# Altium integrated library FMCOMMS3_compatible_board.IntLib: 40 symbols
Pins are listed as number, name and electrical type; pins without a type are passive.

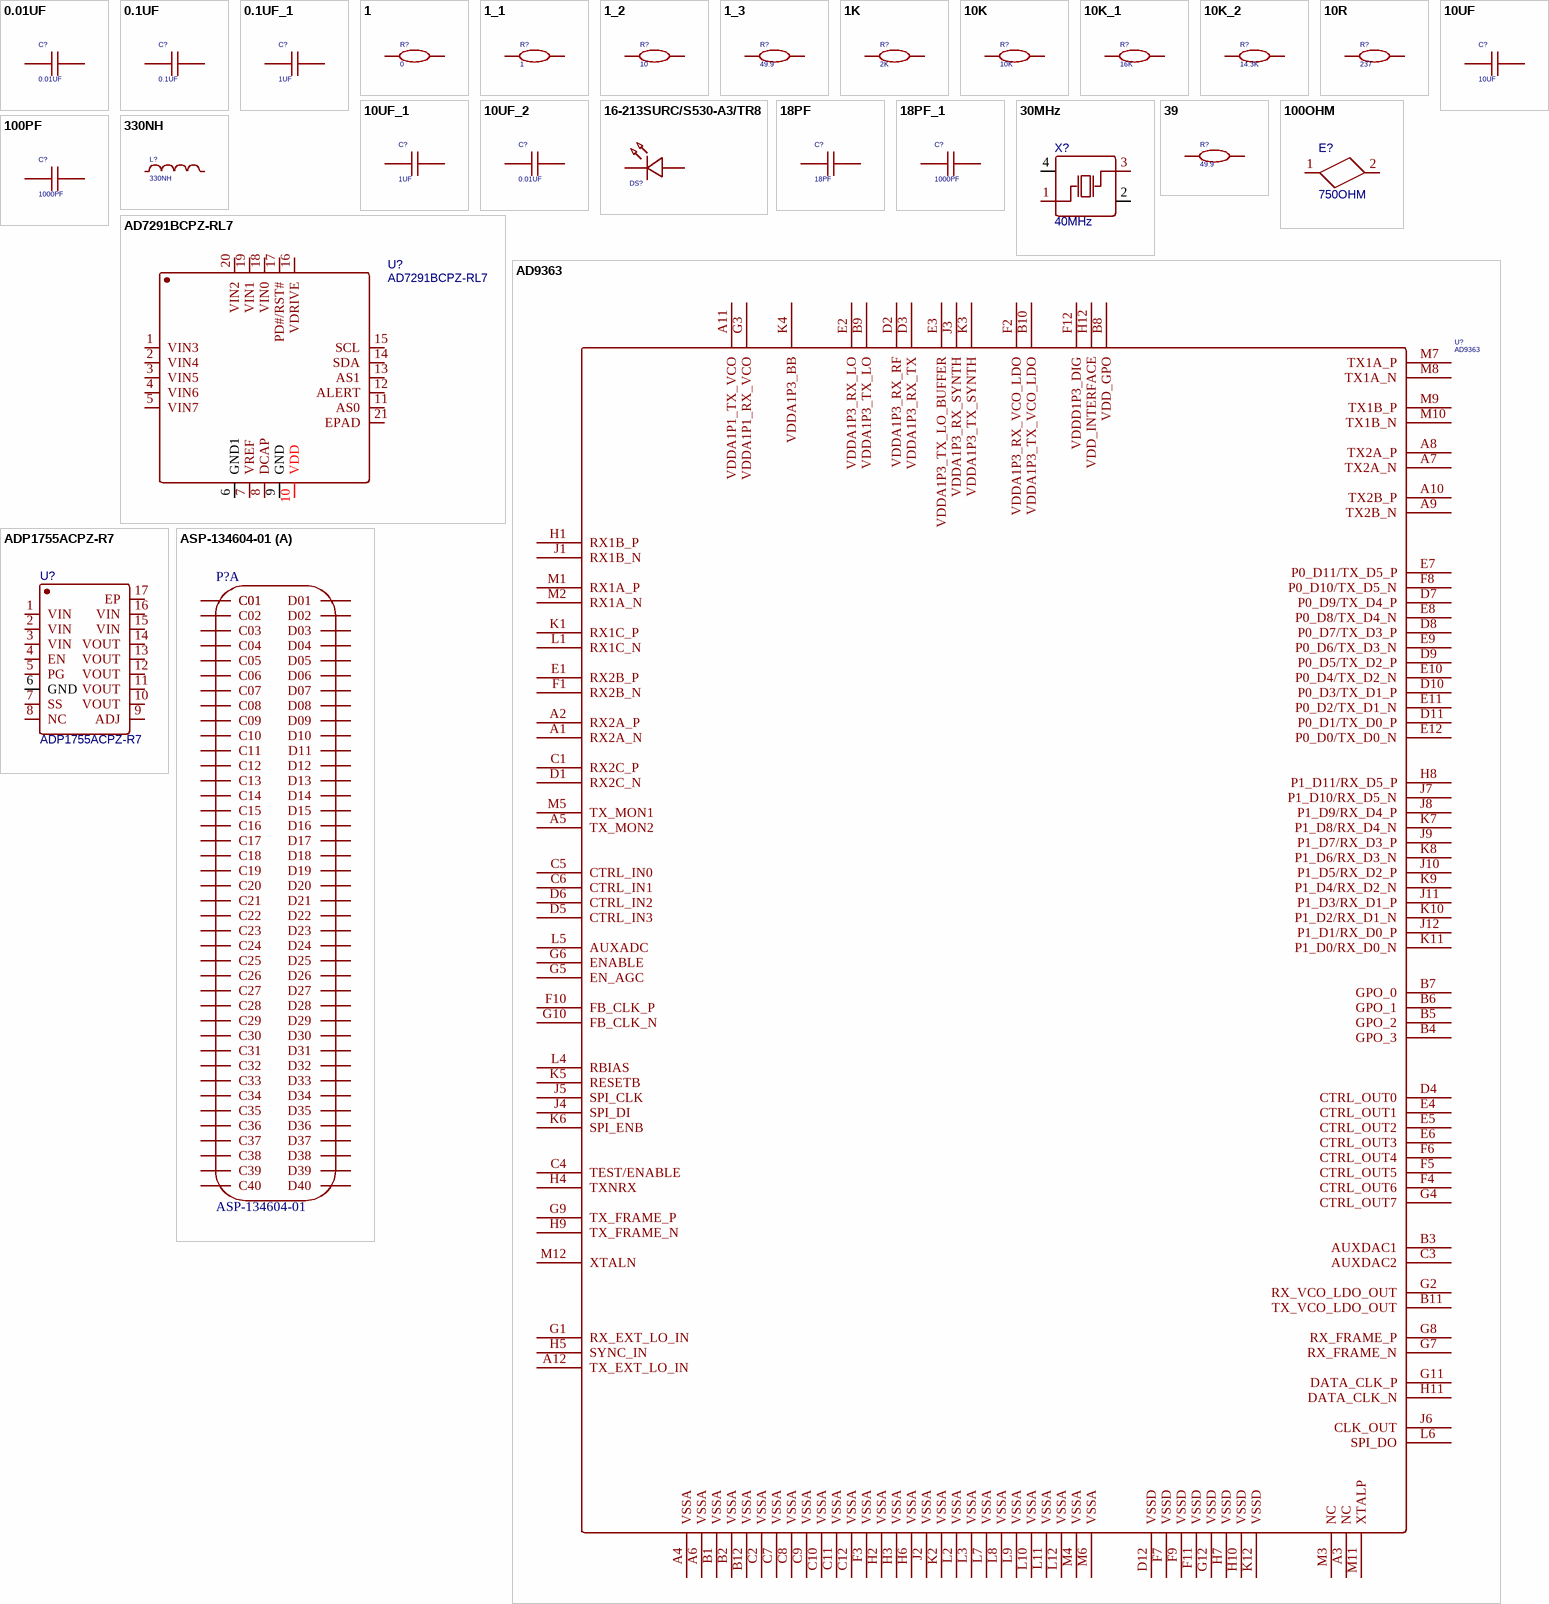
[diagram p0: symbols 0.01UF to ASP-134604-01]

## 0.01UF
designator C?
BOM_Manufacturer: WTC; BOM_Manufacturer Part: 0402B104K160; nameAlias: Capacitance; BOM_Supplier: LCSC; BOM_Supplier Part: C83056; spicePre: C; spiceSymbolName: 0402B104K160
footprint C0402
pins: 1, 2

## 0.1UF
designator C?
BOM_Manufacturer: WTC; BOM_Manufacturer Part: 0402B104K160; nameAlias: Capacitance; BOM_Supplier: LCSC; BOM_Supplier Part: C83056; spicePre: C; spiceSymbolName: 0402B104K160
footprint C0402
pins: 1, 2

## 0.1UF_1
designator C?, comment 1UF
BOM_Manufacturer: WTC; BOM_Manufacturer Part: 0402B104K160; nameAlias: Capacitance; BOM_Supplier: LCSC; BOM_Supplier Part: C83056; spicePre: C; spiceSymbolName: 0402B104K160
footprint C0402
pins: 1, 2

## 1
designator R?, comment 0
BOM_Manufacturer: YAGEO; BOM_Manufacturer Part: RC0402FR-0780R6L; nameAlias: Resistance (Ohms); Contributor: LCSC; BOM_Supplier: LCSC; BOM_Supplier Part: C185392; spicePre: R; spiceSymbolName: RC0402FR-0780R6L
footprint LC-0402_R
pins: 1, 2

## 1_1
designator R?, comment 1
BOM_Manufacturer: YAGEO; BOM_Manufacturer Part: RC0402FR-0780R6L; nameAlias: Resistance (Ohms); Contributor: LCSC; BOM_Supplier: LCSC; BOM_Supplier Part: C185392; spicePre: R; spiceSymbolName: RC0402FR-0780R6L
footprint LC-0402_R
pins: 1, 2

## 1_2
designator R?, comment 10
BOM_Manufacturer: YAGEO; BOM_Manufacturer Part: RC0402FR-0780R6L; nameAlias: Resistance (Ohms); Contributor: LCSC; BOM_Supplier: LCSC; BOM_Supplier Part: C185392; spicePre: R; spiceSymbolName: RC0402FR-0780R6L
footprint LC-0402_R
pins: 1, 2

## 1_3
designator R?, comment 49.9
BOM_Manufacturer: YAGEO; BOM_Manufacturer Part: RC0402FR-0780R6L; nameAlias: Resistance (Ohms); Contributor: LCSC; BOM_Supplier: LCSC; BOM_Supplier Part: C185392; spicePre: R; spiceSymbolName: RC0402FR-0780R6L
footprint LC-0402_R
pins: 1, 2

## 1K
designator R?, comment 2K
BOM_Manufacturer: YAGEO; BOM_Manufacturer Part: RC0402FR-0780R6L; nameAlias: Resistance (Ohms); Contributor: LCSC; BOM_Supplier: LCSC; BOM_Supplier Part: C185392; spicePre: R; spiceSymbolName: RC0402FR-0780R6L
footprint LC-0402_R
pins: 1, 2

## 10K
designator R?
BOM_Manufacturer: YAGEO; BOM_Manufacturer Part: RC0402FR-0780R6L; nameAlias: Resistance (Ohms); Contributor: LCSC; BOM_Supplier: LCSC; BOM_Supplier Part: C185392; spicePre: R; spiceSymbolName: RC0402FR-0780R6L
footprint LC-0402_R
pins: 1, 2

## 10K_1
designator R?, comment 16K
BOM_Manufacturer: YAGEO; BOM_Manufacturer Part: RC0402FR-0780R6L; nameAlias: Resistance (Ohms); Contributor: LCSC; BOM_Supplier: LCSC; BOM_Supplier Part: C185392; spicePre: R; spiceSymbolName: RC0402FR-0780R6L
footprint LC-0402_R
pins: 1, 2

## 10K_2
designator R?, comment 14.3K
BOM_Manufacturer: YAGEO; BOM_Manufacturer Part: RC0402FR-0780R6L; nameAlias: Resistance (Ohms); Contributor: LCSC; BOM_Supplier: LCSC; BOM_Supplier Part: C185392; spicePre: R; spiceSymbolName: RC0402FR-0780R6L
footprint LC-0402_R
pins: 1, 2

## 10R
designator R?, comment 237
BOM_Manufacturer: YAGEO; BOM_Manufacturer Part: RC0402FR-0780R6L; nameAlias: Resistance (Ohms); Contributor: LCSC; BOM_Supplier: LCSC; BOM_Supplier Part: C185392; spicePre: R; spiceSymbolName: RC0402FR-0780R6L
footprint LC-0402_R
pins: 1, 2

## 10UF
designator C?
BOM_Manufacturer: WTC; BOM_Manufacturer Part: 0402B104K160; nameAlias: Capacitance; BOM_Supplier: LCSC; BOM_Supplier Part: C83056; spicePre: C; spiceSymbolName: 0402B104K160
footprint C0402
pins: 1, 2

## 10UF_1
designator C?, comment 1UF
BOM_Manufacturer: WTC; BOM_Manufacturer Part: 0402B104K160; nameAlias: Capacitance; BOM_Supplier: LCSC; BOM_Supplier Part: C83056; spicePre: C; spiceSymbolName: 0402B104K160
footprint C0402
pins: 1, 2

## 10UF_2
designator C?, comment 0.01UF
BOM_Manufacturer: WTC; BOM_Manufacturer Part: 0402B104K160; nameAlias: Capacitance; BOM_Supplier: LCSC; BOM_Supplier Part: C83056; spicePre: C; spiceSymbolName: 0402B104K160
footprint C0402
pins: 1, 2

## 16-213SURC/S530-A3/TR8
designator DS?  (value not drawn)
BOM_Manufacturer: Everlight Elec; Contributor: LCSC; BOM_Supplier: LCSC; BOM_Supplier Part: C605452; BOM_Manufacturer Part: 16-213SURC/S530-A3/TR8; spicePre: L; spiceSymbolName: 16-213SURC/S530-A3/TR8
footprint LED0603
pins: 1 -, 2 +

## 18PF
designator C?
BOM_Manufacturer: WTC; BOM_Manufacturer Part: 0402B104K160; nameAlias: Capacitance; BOM_Supplier: LCSC; BOM_Supplier Part: C83056; spicePre: C; spiceSymbolName: 0402B104K160
footprint C0201
pins: 1, 2

## 18PF_1
designator C?, comment 1000PF
BOM_Manufacturer: WTC; BOM_Manufacturer Part: 0402B104K160; nameAlias: Capacitance; BOM_Supplier: LCSC; BOM_Supplier Part: C83056; spicePre: C; spiceSymbolName: 0402B104K160
footprint C0402
pins: 1, 2

## 30MHz
designator X?, comment 40MHz
BOM_Manufacturer: NDK; BOM_Manufacturer Part: NX3225SA-30M; nameAlias: Frequency; Contributor: LCSC; BOM_Supplier: LCSC; BOM_Supplier Part: C139739; spicePre: X; spiceSymbolName: NX3225SA-30M
footprint XTALNX3225
pins: 1 OSC1, 2 GND, 3 OSC2, 4 GND

## 39
designator R?, comment 49.9
BOM_Manufacturer: YAGEO; BOM_Manufacturer Part: RC0402FR-0780R6L; nameAlias: Resistance (Ohms); Contributor: LCSC; BOM_Supplier: LCSC; BOM_Supplier Part: C185392; spicePre: R; spiceSymbolName: RC0402FR-0780R6L
footprint LC-0402_R
pins: 1, 2

## 100OHM
designator E?, comment 750OHM
BOM_Manufacturer: Murata; BOM_Manufacturer Part: BLM21PG221SN1x; Contributor: prophetC; BOM_Supplier: LCSC; spicePre: L; spiceSymbolName: 220ohm at 100MHz
footprint L0402
pins: 1, 2

## 100PF
designator C?, comment 1000PF
BOM_Manufacturer: WTC; BOM_Manufacturer Part: 0402B104K160; nameAlias: Capacitance; BOM_Supplier: LCSC; BOM_Supplier Part: C83056; spicePre: C; spiceSymbolName: 0402B104K160
footprint C0402
pins: 1, 2

## 330NH
designator L?
BOM_Manufacturer: Sunlord; BOM_Manufacturer Part: GZ1608D121TF; nameAlias: Value; SMT Type: Extend; BOM_Supplier: LCSC; BOM_Supplier Part: C12391; BOM_JLCPCB SMD: Yes; spicePre: L; spiceSymbolName: GZ1608D121TF-C12391
footprint L0805-F
pins: 1, 2

## AD7291BCPZ-RL7
designator U?
BOM_Manufacturer: Analog Devices; Contributor: LCSC; BOM_Paste Type: expand; BOM_Supplier: LCSC; BOM_Supplier Part: C207434; BOM_Manufacturer Part: AD7291BCPZ-RL7; spicePre: U; spiceSymbolName: AD7291BCPZ-RL7
footprint LFCSP-20_L4.0-W4.0-P0.50-TL-EP2.7
pins: 1 VIN3, 2 VIN4, 3 VIN5, 4 VIN6, 5 VIN7, 6 GND1, 7 VREF, 8 DCAP, 9 GND, 10 VDD, 11 AS0, 12 ALERT, 13 AS1, 14 SDA, 15 SCL, 16 VDRIVE, 17 PD#/RST#, 18 VIN0, 19 VIN1, 20 VIN2, 21 EPAD

## AD9363
designator U?
Contributor: fumanduo; spicePre: U; spiceSymbolName: AD9363_PLUTO
footprint AD936X
pins: A1 RX2A_N, A2 RX2A_P, A3 NC, A4 VSSA, A5 TX_MON2, A6 VSSA, A7 TX2A_N, A8 TX2A_P, A9 TX2B_N, A10 TX2B_P, A11 VDDA1P1_TX_VCO, A12 TX_EXT_LO_IN, B1 VSSA, B2 VSSA, B3 AUXDAC1, B4 GPO_3, B5 GPO_2, B6 GPO_1, B7 GPO_0, B8 VDD_GPO, B9 VDDA1P3_TX_LO, B10 VDDA1P3_TX_VCO_LDO, B11 TX_VCO_LDO_OUT, B12 VSSA, C1 RX2C_P, C2 VSSA, C3 AUXDAC2, C4 TEST/ENABLE, C5 CTRL_IN0, C6 CTRL_IN1, C7 VSSA, C8 VSSA, C9 VSSA, C10 VSSA, C11 VSSA, C12 VSSA, D1 RX2C_N, D2 VDDA1P3_RX_RF, D3 VDDA1P3_RX_TX, D4 CTRL_OUT0, D5 CTRL_IN3, D6 CTRL_IN2, D7 P0_D9/TX_D4_P, D8 P0_D7/TX_D3_P, D9 P0_D5/TX_D2_P, D10 P0_D3/TX_D1_P, D11 P0_D1/TX_D0_P, D12 VSSD, E1 RX2B_P, E2 VDDA1P3_RX_LO, E3 VDDA1P3_TX_LO_BUFFER, E4 CTRL_OUT1, E5 CTRL_OUT2, E6 CTRL_OUT3, E7 P0_D11/TX_D5_P, E8 P0_D8/TX_D4_N, E9 P0_D6/TX_D3_N, E10 P0_D4/TX_D2_N, E11 P0_D2/TX_D1_N, E12 P0_D0/TX_D0_N, F1 RX2B_N, F2 VDDA1P3_RX_VCO_LDO, F3 VSSA, F4 CTRL_OUT6, F5 CTRL_OUT5, F6 CTRL_OUT4, F7 VSSD, F8 P0_D10/TX_D5_N, F9 VSSD, F10 FB_CLK_P, F11 VSSD, F12 VDDD1P3_DIG, G1 RX_EXT_LO_IN, G2 RX_VCO_LDO_OUT, G3 VDDA1P1_RX_VCO, G4 CTRL_OUT7, G5 EN_AGC, G6 ENABLE, G7 RX_FRAME_N, G8 RX_FRAME_P, G9 TX_FRAME_P, G10 FB_CLK_N, G11 DATA_CLK_P, G12 VSSD, H1 RX1B_P, H2 VSSA, H3 VSSA, H4 TXNRX, H5 SYNC_IN, H6 VSSA, H7 VSSD, H8 P1_D11/RX_D5_P, H9 TX_FRAME_N, H10 VSSD, H11 DATA_CLK_N, H12 VDD_INTERFACE, J1 RX1B_N, J2 VSSA, J3 VDDA1P3_RX_SYNTH, J4 SPI_DI, J5 SPI_CLK, J6 CLK_OUT, J7 P1_D10/RX_D5_N, J8 P1_D9/RX_D4_P, J9 P1_D7/RX_D3_P, J10 P1_D5/RX_D2_P, J11 P1_D3/RX_D1_P, J12 P1_D1/RX_D0_P, K1 RX1C_P, K2 VSSA, K3 VDDA1P3_TX_SYNTH, K4 VDDA1P3_BB, K5 RESETB, K6 SPI_ENB, K7 P1_D8/RX_D4_N, K8 P1_D6/RX_D3_N, K9 P1_D4/RX_D2_N, K10 P1_D2/RX_D1_N, K11 P1_D0/RX_D0_N, K12 VSSD, L1 RX1C_N, L2 VSSA, L3 VSSA, L4 RBIAS, L5 AUXADC, L6 SPI_DO, L7 VSSA, L8 VSSA, L9 VSSA, L10 VSSA, L11 VSSA, L12 VSSA, M1 RX1A_P, M2 RX1A_N, M3 NC, M4 VSSA, M5 TX_MON1, M6 VSSA, M7 TX1A_P, M8 TX1A_N, M9 TX1B_P, M10 TX1B_N, M11 XTALP, M12 XTALN

## ADP1755ACPZ-R7
designator U?
BOM_Manufacturer: Analog Devices; Contributor: LCSC; BOM_Paste Type: expand; BOM_Supplier: LCSC; BOM_Supplier Part: C403695; BOM_Manufacturer Part: ADP1755ACPZ-R7; spicePre: U; spiceSymbolName: ADP1755ACPZ-R7
footprint LFCSP-WQ-16_L4.0-W4.0-P0.65-EP2.3-BL-EP
pins: 1 VIN, 2 VIN, 3 VIN, 4 EN, 5 PG, 6 GND, 7 SS, 8 NC, 9 ADJ, 10 VOUT, 11 VOUT, 12 VOUT, 13 VOUT, 14 VOUT, 15 VIN, 16 VIN, 17 EP

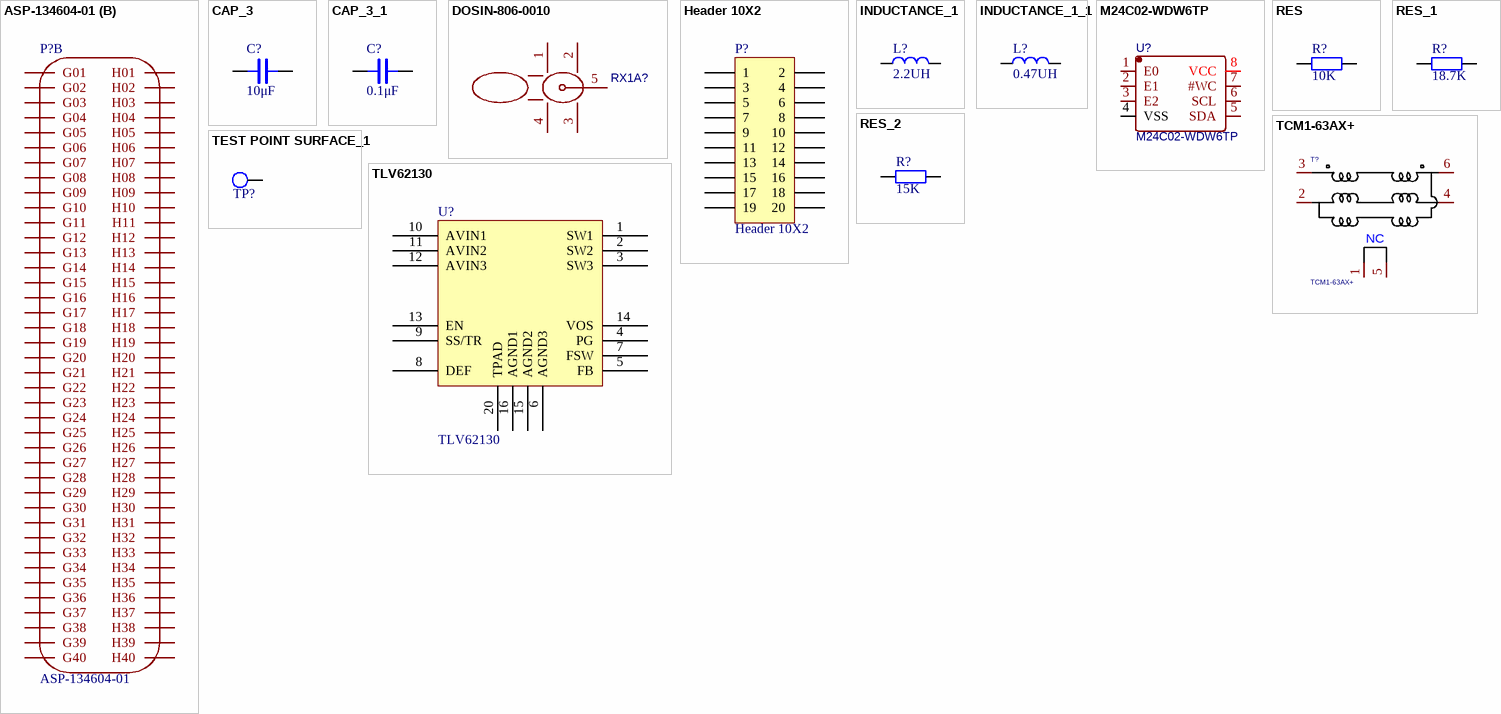
[diagram p1: symbols ASP-134604-01 to TLV62130]

## ASP-134604-01
designator P?
footprint CNSAMTECASP-134604-01
part A pins: C01, C01, C02, C03, C04, C05, C06, C07, C08, C09, C10, C11, C12, C13, C14, C15, C16, C17, C18, C19, C20, C21, C22, C23, C24, C25, C26, C27, C28, C29, C30, C31, C32, C33, C34, C35, C36, C37, C38, C39, C40, D01, D02, D03, D04, D05, D06, D07, D08, D09, D10, D11, D12, D13, D14, D15, D16, D17, D18, D19, D20, D21, D22, D23, D24, D25, D26, D27, D28, D29, D30, D31, D32, D33, D34, D35, D36, D37, D38, D39, D40
part B pins: G01, G02, G03, G04, G05, G06, G07, G08, G09, G10, G11, G12, G13, G14, G15, G16, G17, G18, G19, G20, G21, G22, G23, G24, G25, G26, G27, G28, G29, G30, G31, G32, G33, G34, G35, G36, G37, G38, G39, G40, H01, H02, H03, H04, H05, H06, H07, H08, H09, H10, H11, H12, H13, H14, H15, H16, H17, H18, H19, H20, H21, H22, H23, H24, H25, H26, H27, H28, H29, H30, H31, H32, H33, H34, H35, H36, H37, H38, H39, H40

## CAP_3
designator C?, comment 10μF
Capacitor
footprint C0402
pins: 1, 2

## CAP_3_1
designator C?, comment 0.1μF
Capacitor
footprint C0402
pins: 1, 2

## DOSIN-806-0010
designator RX1A?  (value not drawn)
BOM_Manufacturer: dosinconn; Contributor: LCSC; BOM_Supplier: LCSC; BOM_Supplier Part: C521221; BOM_Manufacturer Part: DOSIN-806-0010; spicePre: R; spiceSymbolName: DOSIN-806-0010
footprint CNJOHNSON142-0701-851
pins: 1, 2, 3, 4, 5

## Header 10X2
designator P?
Header, 10-Pin, Dual row; LatestRevisionDate: 17-Jul-2002; LatestRevisionNote: Re-released for DXP Platform.; Publisher: Altium Limited
signal-integrity model Connector
footprint CNBERGF2X10H335LD32
pins: 1, 2, 3, 4, 5, 6, 7, 8, 9, 10, 11, 12, 13, 14, 15, 16, 17, 18, 19, 20

## INDUCTANCE_1
designator L?, comment 2.2UH
Inductance
footprint L1008
pins: 1, 2

## INDUCTANCE_1_1
designator L?, comment 0.47UH
Inductance
footprint L1008
pins: 1, 2

## M24C02-WDW6TP
designator U?
BOM_Manufacturer: STMicroelectronics; Contributor: LCSC; BOM_Paste Type: expand; BOM_Supplier: LCSC; BOM_Supplier Part: C283436; BOM_Manufacturer Part: M24C02-WDW6TP; spicePre: U; spiceSymbolName: M24C02-WDW6TP
footprint TSSOP8
pins: 1 E0, 2 E1, 3 E2, 4 VSS, 5 SDA, 6 SCL, 7 #WC, 8 VCC

## RES
designator R?, comment 10K
Resistor
footprint LC-0402_R
pins: 1, 2

## RES_1
designator R?, comment 18.7K
Resistor
footprint LC-0402_R
pins: 1, 2

## RES_2
designator R?, comment 15K
Resistor
footprint LC-0402_R
pins: 1, 2

## TCM1-63AX+
designator T?
Contributor: GaAs; spicePre: T; spiceSymbolName: TCM1-63AX+
footprint TSML150W160H160
pins: 1 NC, 2, 3, 4, 5 NC, 6

## TEST POINT SURFACE_1
designator TP?, comment TEST POINT SURFACE  (value not drawn)
footprint TPC75D45
pins: 1 TP

## TLV62130
designator U?
footprint TLV62130RGT
pins: 1 SW1, 2 SW2, 3 SW3, 4 PG, 5 FB, 6 AGND3, 7 FSW, 8 DEF, 9 SS/TR, 10 AVIN1, 11 AVIN2, 12 AVIN3, 13 EN, 14 VOS, 15 AGND2, 16 AGND1, 20 TPAD